# EAGLE library part RN2483 (library ICs)
Transceiver Module, LoRa® Technology, Low-Power, Long Range
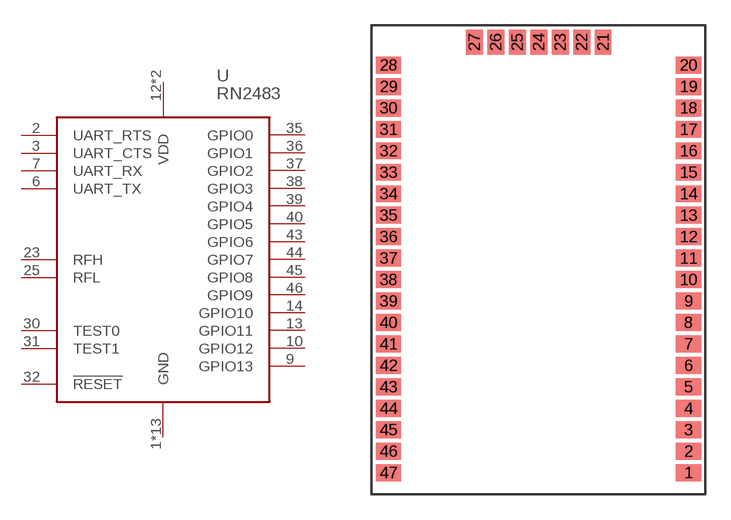
[diagram p155: symbol with the pads of RN2483; footprint RN2483]

Designator prefix U

## RN2483A-I/RM105 (DIGIKEY: RN2483A-I/RM105-ND; HEIGHT: 4; PRICE_PER: 9.9; VALUE: RN2483)  [RN2483]
1  GND
2  UART_RTS
3  UART_CTS
6  UART_TX
7  UART_RX
8  GND
9  GPIO13
10  GPIO12
11  GND
12  VDD
13  GPIO11
14  GPIO10
20  GND
21  GND
22  GND
23  RFH
24  GND
25  RFL
26  GND
27  GND
28  GND
30  TEST0
31  TEST1
32  !RESET
33  GND
34  VDD
35  GPIO0
36  GPIO1
37  GPIO2
38  GPIO3
39  GPIO4
40  GPIO5
41  GND
43  GPIO6
44  GPIO7
45  GPIO8
46  GPIO9
47  GND

## Footprint RN2483 (pad centres in mm)
smd 1.5 x 1: 1 8.875,-12.605; 2 8.875,-11.335; 3 8.875,-10.065; 4 8.875,-8.795; 5 8.875,-7.525; 6 8.875,-6.255; 7 8.875,-4.985; 8 8.875,-3.715; 9 8.875,-2.445; 10 8.875,-1.175; 11 8.875,0.095; 12 8.875,1.365; 13 8.875,2.635; 14 8.875,3.905; 15 8.875,5.175; 16 8.875,6.445; 17 8.875,7.715; 18 8.875,8.985; 19 8.875,10.255; 20 8.875,11.525; 28 -8.875,11.525; 29 -8.875,10.255; 30 -8.875,8.985; 31 -8.875,7.715; 32 -8.875,6.445; 33 -8.875,5.175; 34 -8.875,3.905; 35 -8.875,2.635; 36 -8.875,1.365; 37 -8.875,0.095; 38 -8.875,-1.175; 39 -8.875,-2.445; 40 -8.875,-3.715; 41 -8.875,-4.985; 42 -8.875,-6.255; 43 -8.875,-7.525; 44 -8.875,-8.795; 45 -8.875,-10.065; 46 -8.875,-11.335; 47 -8.875,-12.605
smd 1 x 1.5: 21 3.825,12.875; 22 2.555,12.875; 23 1.285,12.875; 24 0.015,12.875; 25 -1.255,12.875; 26 -2.525,12.875; 27 -3.795,12.875